# EAGLE library part USB-C (library Bauteile)
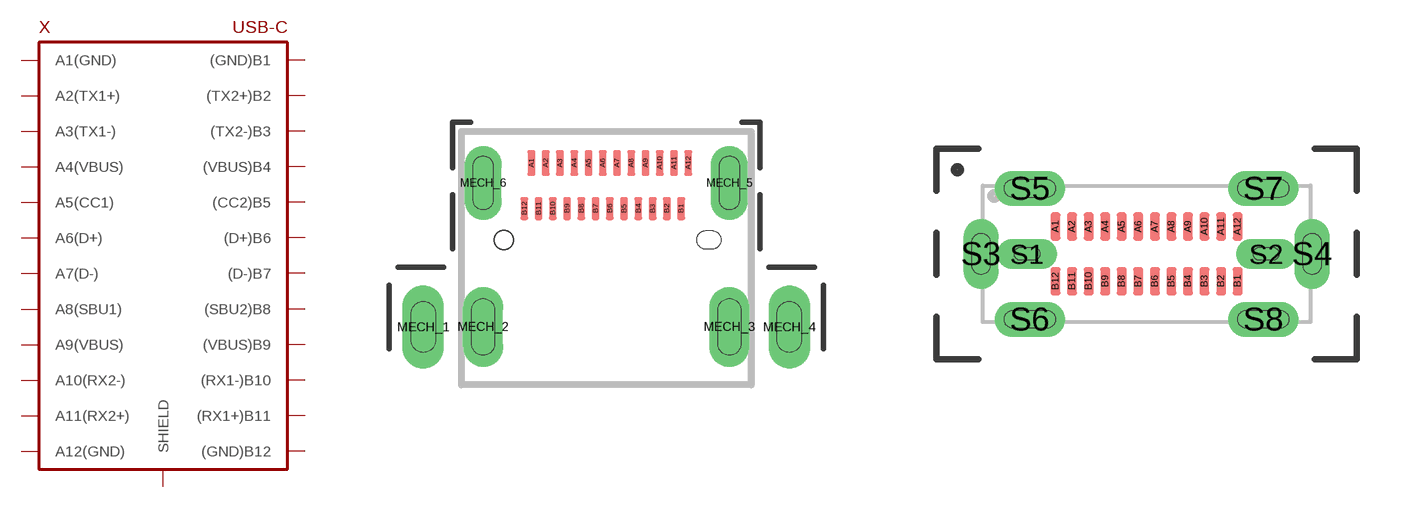
[diagram p98: symbol with the pads of USB-C_AMPHENOL_12402073E512A; footprints USB-C_AMPHENOL_12402073E512A, USB-C_AMPHENOL_12402082E512A]

Designator prefix X

## USB-C(12402073E512A)  [USB-C_AMPHENOL_12402073E512A]
A1  A1(GND)
A2  A2(TX1+)
A3  A3(TX1-)
A4  A4(VBUS)
A5  A5(CC1)
A6  A6(D+)
A7  A7(D-)
A8  A8(SBU1)
A9  A9(VBUS)
A10  A10(RX2-)
A11  A11(RX2+)
A12  A12(GND)
B1  (GND)B1
B2  (TX2+)B2
B3  (TX2-)B3
B4  (VBUS)B4
B5  (CC2)B5
B6  (D+)B6
B7  (D-)B7
B8  (SBU2)B8
B9  (VBUS)B9
B10  (RX1-)B10
B11  (RX1+)B11
B12  (GND)B12
MECH_1  SHIELD
MECH_2  SHIELD
MECH_3  SHIELD
MECH_4  SHIELD
MECH_5  SHIELD
MECH_6  SHIELD

## USB-C(12402082E512A)  [USB-C_AMPHENOL_12402082E512A]
A1  A1(GND)
A2  A2(TX1+)
A3  A3(TX1-)
A4  A4(VBUS)
A5  A5(CC1)
A6  A6(D+)
A7  A7(D-)
A8  A8(SBU1)
A9  A9(VBUS)
A10  A10(RX2-)
A11  A11(RX2+)
A12  A12(GND)
B1  (GND)B1
B2  (TX2+)B2
B3  (TX2-)B3
B4  (VBUS)B4
B5  (CC2)B5
B6  (D+)B6
B7  (D-)B7
B8  (SBU2)B8
B9  (VBUS)B9
B10  (RX1-)B10
B11  (RX1+)B11
B12  (GND)B12
S1  SHIELD
S2  SHIELD
S3  SHIELD
S4  SHIELD
S5  SHIELD
S6  SHIELD
S7  SHIELD
S8  SHIELD

## Footprint USB-C_AMPHENOL_12402073E512A (pad centres in mm)
smd 0.27 x 0.9: A1 -2.625,2.7; A2 -2.125,2.7; A3 -1.625,2.7; A4 -1.125,2.7; A5 -0.625,2.7; A6 -0.125,2.7; A7 0.375,2.7; A8 0.875,2.7; A9 1.375,2.7; A10 1.875,2.7; A11 2.375,2.7; A12 2.875,2.7
smd 0.27 x 0.8: B1 2.625,1.1; B2 2.125,1.1; B3 1.625,1.1; B4 1.125,1.1; B5 0.625,1.1; B6 0.125,1.1; B7 -0.375,1.1; B8 -0.875,1.1; B9 -1.375,1.1; B10 -1.875,1.1; B11 -2.375,1.1; B12 -2.875,1.1
drill 0.85 pad 1.45 long: MECH_1 -6.42,-3.05; MECH_4 6.42,-3.05
drill 0.8 pad 1.4 long: MECH_2 -4.32,-3.05; MECH_3 4.32,-3.05
drill 0.7 pad 1.3 long: MECH_5 4.32,2; MECH_6 -4.32,2
hole 0.67 at -3.6,0

## Footprint USB-C_AMPHENOL_12402082E512A (pad centres in mm)
smd 0.3 x 0.85: A1 -2.75,0.825; A2 -2.25,0.825; A3 -1.75,0.825; A4 -1.25,0.825; A5 -0.75,0.825; A6 -0.25,0.825; A7 0.25,0.825; A8 0.75,0.825; A9 1.25,0.825; A10 1.75,0.825; A11 2.25,0.825; A12 2.75,0.825; B1 2.75,-0.825; B2 2.25,-0.825; B3 1.75,-0.825; B4 1.25,-0.825; B5 0.75,-0.825; B6 0.25,-0.825; B7 -0.25,-0.825; B8 -0.75,-0.825; B9 -1.25,-0.825; B10 -1.75,-0.825; B11 -2.25,-0.825; B12 -2.75,-0.825
drill 0.4 pad 0.7 long: S1 -3.61,0; S2 3.61,0
drill 0.55 pad 0.85 long: S3 -5,0; S4 5,0; S5 -3.525,1.975; S6 -3.525,-1.975; S7 3.525,1.975; S8 3.525,-1.975